# EAGLE library part TSL2561 (library arducorder-mini)
AMS-TAOS TSL2561 Light-to-Digital Converter, I2C Interface
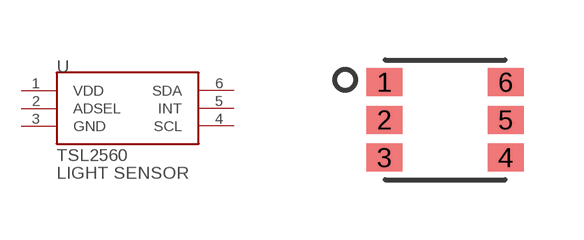
[diagram p32: symbol with the pads of TMB-6; footprint TMB-6]

Designator prefix -

## TSL2561  [TMB-6]
1  VDD
2  ADSEL
3  GND
4  SCL
5  INT
6  SDA

## Footprint TMB-6 (pad centres in mm)
smd 0.9 x 0.7: 1 -1.518,0.945; 2 -1.518,0; 3 -1.518,-0.945; 4 1.518,-0.945; 5 1.518,0; 6 1.518,0.945